# Altium footprint library 2.4GHz_On_Board_Antenna.PcbLib: 1 footprints
Each footprint in its own frame and in the unit in brackets; x right, y up, seen from the top. Pads: shape width x height; smd on the part's side, far side on the other; paste and mask are expansions set on the pad; w line width, h text height; cw(c..) or ccw(c..) is an arc to the next point about the centre after c.
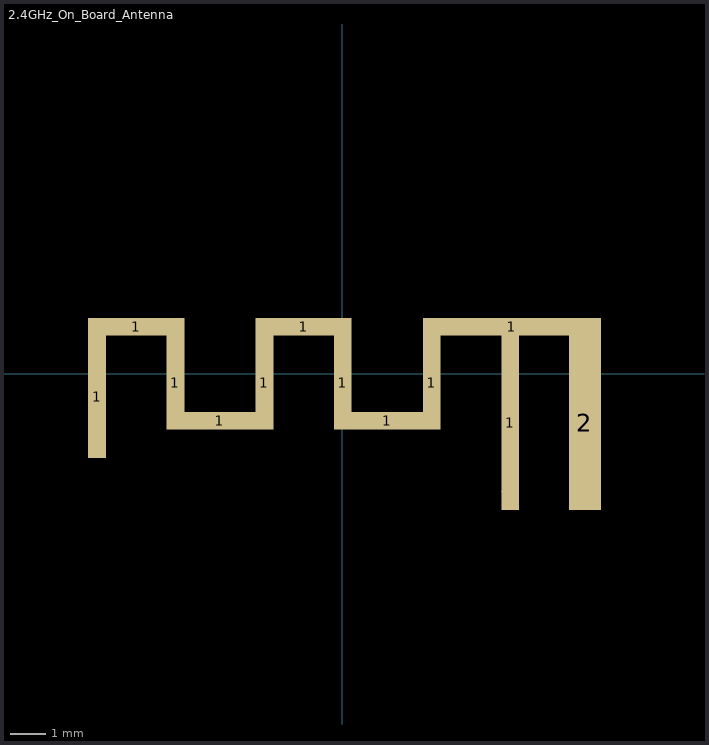
[diagram p0: the footprint, top view; thin cyan lines are the x and y axes]

## 2.4GHz_On_Board_Antenna [mm]
pads (23):
  rect 0.5x3.44 smd mask+0.102: 1(-6.885,-0.648)
  rect 0.5x0.1 smd mask+0.102: 1(-6.885,1.072) 1(-4.685,1.097) 1(-2.185,1.072) 1(0.015,1.072) 1(2.515,1.072) 1(4.715,1.072)
  rect 2.7x0.5 smd mask+0.102: 1(-5.785,1.322) 1(-1.085,1.322)
  rect 0.5x2.64 smd mask+0.102: 1(-4.685,-0.248) 1(-2.185,-0.248) 1(0.015,-0.248) 1(2.515,-0.248)
  rect 0.1x0.5 smd mask+0.102: 1(-4.435,-1.318) 1(-2.435,-1.318) 1(0.245,-1.318) 1(2.25,-1.318)
  rect 2x0.5 smd mask+0.102: 1(-3.435,-1.318) 1(1.265,-1.318)
  rect 0.5x4.9 smd mask+0.102: 1(4.715,-1.378)
  rect 5x0.5 smd mask+0.102: 1(4.765,1.322)
  rect 0.9x4.9 smd mask+0.102: 2(6.815,-1.378)
  rect 0.9x0.1 smd mask+0.102: 2(6.815,1.072)
Top Overlay:
  lines w0.051: 4.5,-3.302 4.925,-3.3 ; 6.4,-3.302 7.239,-3.302
  lines w0.2: -6.877,-2.165 -6.877,1.333 -4.715,1.333 -4.715,0.46 -4.715,-0.46 -4.715,-0.96 -4.715,-1.333 -3.377,-1.333 -2.425,-1.333 -2.172,-1.333 -2.172,1.333 0,1.333 0,-1.333 2.515,-1.333 2.515,1.333 4.637,1.333 ; 4.686,1.284 4.637,1.333 ; 4.705,-3.225 4.705,1.284 ; 6.805,-3.225 6.805,-1.516 6.805,-0.009 6.805,1.333 4.637,1.333